# Altium schematic symbol library Schlib.SchLib: 10 symbols
Pins are listed as number, name and electrical type; pins without a type are passive.

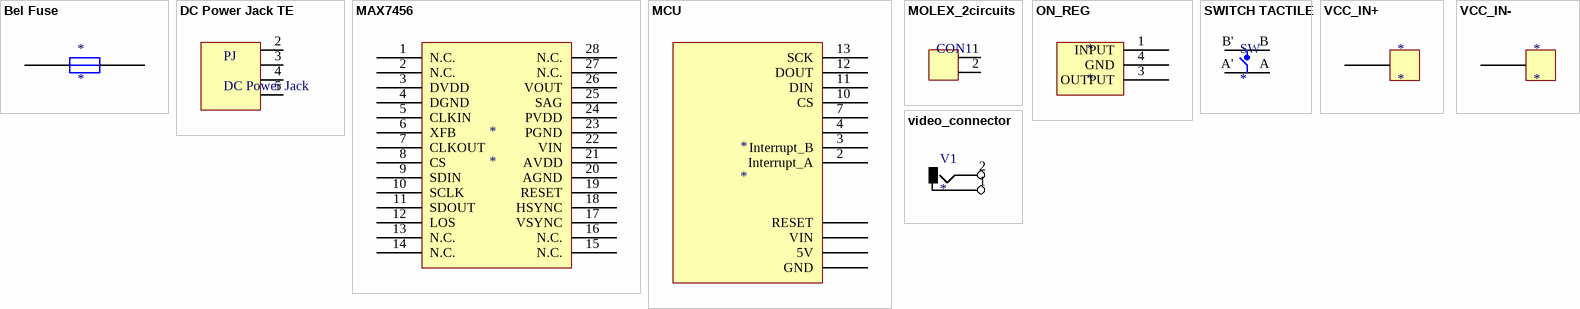
[diagram p0: symbols Bel Fuse to video_connector]

## Bel Fuse
designator *
pins: 1, 2

## DC Power Jack TE
designator PJ, comment DC Power Jack
footprint DC Power Jack TE
pins: 2, 3, 4, 5

## MAX7456
designator *
pins: 1 N.C., 2 N.C., 3 DVDD, 4 DGND, 5 CLKIN, 6 XFB, 7 CLKOUT, 8 CS, 9 SDIN, 10 SCLK, 11 SDOUT, 12 LOS, 13 N.C., 14 N.C., 15 N.C., 16 N.C., 17 VSYNC, 18 HSYNC, 19 RESET, 20 AGND, 21 AVDD, 22 VIN, 23 PGND, 24 PVDD, 25 SAG, 26 VOUT, 27 N.C., 28 N.C.

## MCU
designator *
pins: 2 Interrupt_A, 3 Interrupt_B, 4 LED, 5V, 7 VIN, 10 CS, 11 DIN, 12 DOUT, 13 SCK, ?1 RESET, GND, VIN

## MOLEX_2circuits
designator CON1, comment MOLEX_2CIRCUITS  (value not drawn)
footprint MOLEX_2CIRCUITS
pins: 1, 2

## ON_REG
designator *
pins: 1 INPUT, 3 OUTPUT, 4 GND

## SWITCH TACTILE
designator SW
pins: A, A', B, B'

## VCC_IN+
designator *
footprint VCC_Pad
pins: 0

## VCC_IN-
designator *
footprint VCC_Pad
pins: 0

## video_connector
designator V1
footprint Video Connector
pins: 1, 2